# Altium schematic symbol library Richtek, RT2862xSP.SchLib: 1 symbol
Pins are listed as number, name and electrical type; pins without a type are passive.

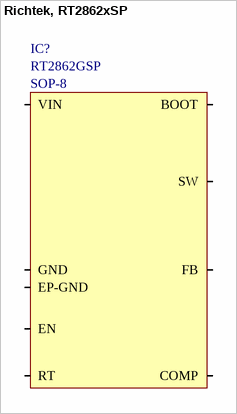
[diagram p0: symbol Richtek, RT2862xSP]

## Richtek, RT2862xSP
designator IC?  Manufacturer Part Number: RT2862GSP  Package: SOP-8  (hidden comment: *)
IC, Power, Buck, SOP-8; Manufacturer: Richtek; ComponentLink1Description: Datasheet; ComponentLink1URL: E:\Altium\Datasheets\IC - Power - DC-DC\Richtek, RT2862.pdf; ComponentLink2Description: Supplier Link; ComponentLink2URL: https://www.digikey.com/en/products/detail/richtek-usa-inc/RT2862GSP/5880463; Supplier: Digikey; Supplier Part Number: 1028-1373-1-ND; Operating Temperature, Min: -40℃; Operating Temperature, Max: +85℃; Quantity, Min: 1; Quantity, Max: 5000; Price, Min: 1.93; Supplier Currency: $; Price, Max: 0.85214; Supplier Link: https://www.digikey.com/en/products/detail/richtek-usa-inc/RT2862GSP/5880463; Component Type: Power; Component Category: IC
footprint Richtek, RT2862xSP, SOP-8
pins: 1-SW SW, 2-BOOT BOOT, 3-EN EN, 4-GND GND, 5-FB FB, 6-COMP COMP, 7-RT RT, 8-VIN VIN, EP-GND